# EAGLE library part AT30TSE7(52A/54A/58A) (library PP_DigitalIC)
Manufacturer Part #: AT30TSE752A / AT30TSE754A / AT30TSE758A Manufacturer: Atmel Description: Board Mount Temperature Sensors 1-ch TmpSnsr NV Reg I2C
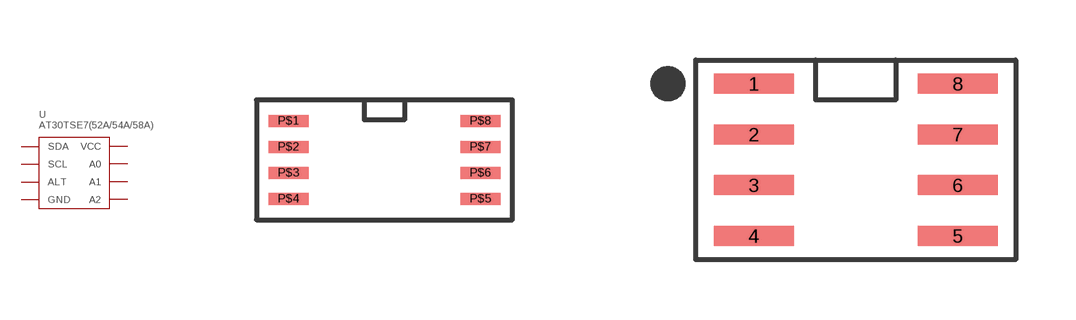
[diagram p21: symbol with the pads of AT30TSE7(52A/54A/58A)_MSOP-8; footprints AT30TSE7(52A/54A/58A)_MSOP-8, AT30TSE7(52A/54A/58A)_SOIC-8]

Designator prefix U

## AT30TSE7(52A/54A/58A)-XM8M  [AT30TSE7(52A/54A/58A)_MSOP-8]
P$1  SDA
P$2  SCL
P$3  ALT
P$4  GND
P$5  A2
P$6  A1
P$7  A0
P$8  VCC

## AT30TSE7(52A/54A/58A)-SS8M  [AT30TSE7(52A/54A/58A)_SOIC-8]
1  SDA
2  SCL
3  ALT
4  GND
5  A2
6  A1
7  A0
8  VCC

## Footprint AT30TSE7(52A/54A/58A)_MSOP-8 (pad centres in mm)
smd 1 x 0.3: P$1 -2.4,0.975; P$2 -2.4,0.325; P$3 -2.4,-0.325; P$4 -2.4,-0.975; P$5 2.4,-0.975; P$6 2.4,-0.325; P$7 2.4,0.325; P$8 2.4,0.975

## Footprint AT30TSE7(52A/54A/58A)_SOIC-8 (pad centres in mm)
smd 2 x 0.5: 1 -2.55,1.905; 2 -2.55,0.635; 3 -2.55,-0.635; 4 -2.55,-1.905; 5 2.55,-1.905; 6 2.55,-0.635; 7 2.55,0.635; 8 2.55,1.905